# EAGLE library part GRPB122VWQP (library con-sullins-grpb)
HEADER
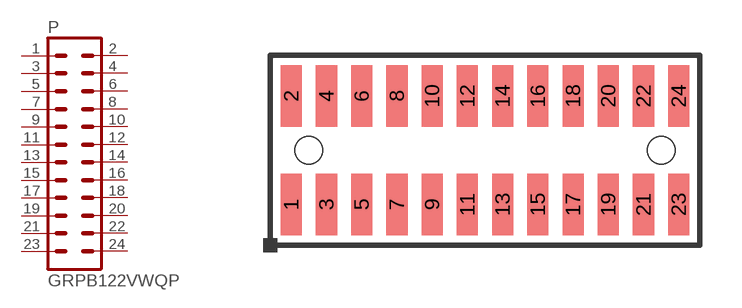
[diagram p9: symbol with the pads of GRPB122VWQP; footprint GRPB122VWQP]

Designator prefix P

## GRPB122VWQP  [GRPB122VWQP]
1  1  pas
2  2  pas
3  3  pas
4  4  pas
5  5  pas
6  6  pas
7  7  pas
8  8  pas
9  9  pas
10  10  pas
11  11  pas
12  12  pas
13  13  pas
14  14  pas
15  15  pas
16  16  pas
17  17  pas
18  18  pas
19  19  pas
20  20  pas
21  21  pas
22  22  pas
23  23  pas
24  24  pas

## Footprint GRPB122VWQP (pad centres in mm)
HEADER
smd 0.762 x 2.21: 1 -6.985,-1.956; 2 -6.985,1.956; 3 -5.715,-1.956; 4 -5.715,1.956; 5 -4.445,-1.956; 6 -4.445,1.956; 7 -3.175,-1.956; 8 -3.175,1.956; 9 -1.905,-1.956; 10 -1.905,1.956; 11 -0.635,-1.956; 12 -0.635,1.956; 13 0.635,-1.956; 14 0.635,1.956; 15 1.905,-1.956; 16 1.905,1.956; 17 3.175,-1.956; 18 3.175,1.956; 19 4.445,-1.956; 20 4.445,1.956; 21 5.715,-1.956; 22 5.715,1.956; 23 6.985,-1.956; 24 6.985,1.956
hole 1 at -6.35,0
hole 1 at 6.35,0